# Altium schematic symbol library L SS11VL.Schlib: 1 symbol
Pins are listed as number, name and electrical type; pins without a type are passive.

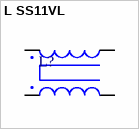
[diagram p0: symbol L SS11VL]

## L SS11VL
designator L?
1.3 A     22 x 14.5 mm
pins: 1, 2, 3, 4